# Altium integrated library ALTIUM-WE-PD-rev18b.IntLib: 278 symbols (part 1 of 4)
Pins are listed as number, name and electrical type; pins without a type are passive.

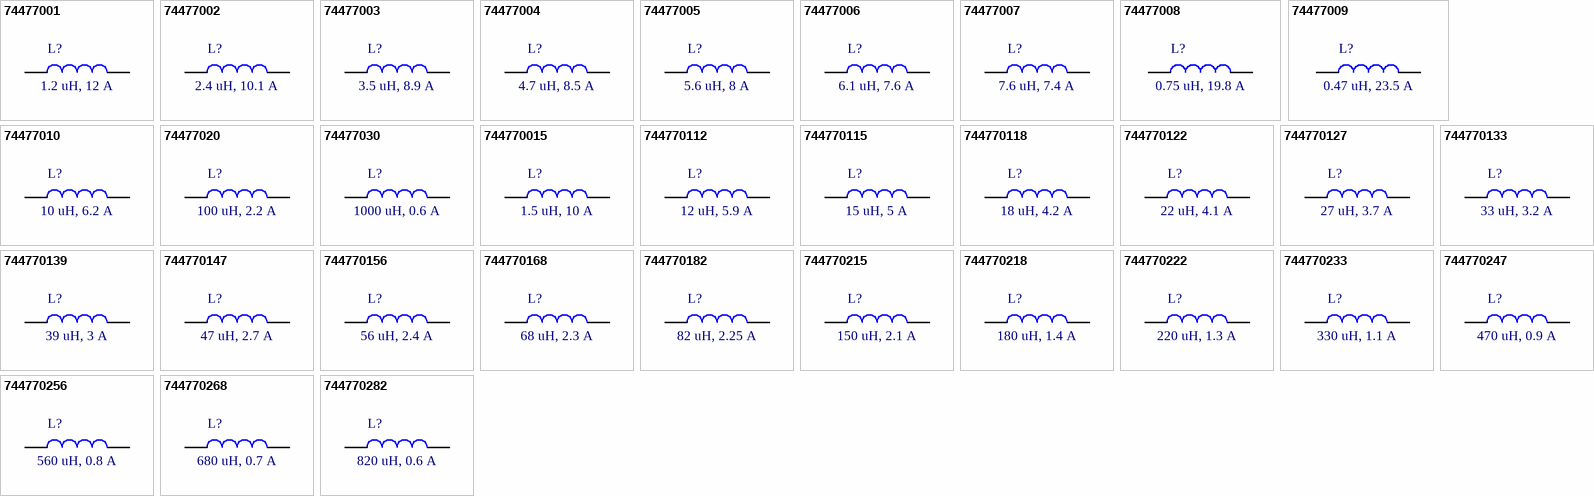
[diagram p0: symbols 74477001 to 744770282]

## 74477001
designator L?, comment 1.2 uH, 12 A
WE-PD SMT Shielded Power Inductor, size 1280, 1.2 uH, 12 A; Part Number: 74477001; Rated Current: 12 A; Inductance: 1.2 uH; DC Resistance max.: 0.007 Ohm; Self Resonant Frequency: 45 MHz; ComponentLink1Description: Manufacturer; ComponentLink1URL: http://www.we-online.de; ComponentLink2Description: Datasheet; ComponentLink2URL: https://katalog.we-online.de/pbs/datasheet/74477001.pdf; Published Date: September 2018; Publisher: Wurth Elektronik; Size: 1280; Operating Temperature: -40 to 125 degC; Mounting Technology: SMT; Packaging: Tape and Reel
footprint WE-PD_1280_Metal base
pins: 1, 2

## 74477002
designator L?, comment 2.4 uH, 10.1 A
WE-PD SMT Shielded Power Inductor, size 1280, 2.4 uH, 10.1 A; Part Number: 74477002; Rated Current: 10.1 A; Inductance: 2.4 uH; DC Resistance max.: 0.012 Ohm; Self Resonant Frequency: 41 MHz; ComponentLink1Description: Manufacturer; ComponentLink1URL: http://www.we-online.de; ComponentLink2Description: Datasheet; ComponentLink2URL: https://katalog.we-online.de/pbs/datasheet/74477002.pdf; Published Date: September 2018; Publisher: Wurth Elektronik; Size: 1280; Operating Temperature: -40 to 125 degC; Mounting Technology: SMT; Packaging: Tape and Reel
footprint WE-PD_1280_Metal base
pins: 1, 2

## 74477003
designator L?, comment 3.5 uH, 8.9 A
WE-PD SMT Shielded Power Inductor, size 1280, 3.5 uH, 8.9 A; Part Number: 74477003; Rated Current: 8.9 A; Inductance: 3.5 uH; DC Resistance max.: 0.014 Ohm; Self Resonant Frequency: 37.5 MHz; ComponentLink1Description: Manufacturer; ComponentLink1URL: http://www.we-online.de; ComponentLink2Description: Datasheet; ComponentLink2URL: https://katalog.we-online.de/pbs/datasheet/74477003.pdf; Published Date: September 2018; Publisher: Wurth Elektronik; Size: 1280; Operating Temperature: -40 to 125 degC; Mounting Technology: SMT; Packaging: Tape and Reel
footprint WE-PD_1280_Metal base
pins: 1, 2

## 74477004
designator L?, comment 4.7 uH, 8.5 A
WE-PD SMT Shielded Power Inductor, size 1280, 4.7 uH, 8.5 A; Part Number: 74477004; Rated Current: 8.5 A; Inductance: 4.7 uH; DC Resistance max.: 0.016 Ohm; Self Resonant Frequency: 31.2 MHz; ComponentLink1Description: Manufacturer; ComponentLink1URL: http://www.we-online.de; ComponentLink2Description: Datasheet; ComponentLink2URL: https://katalog.we-online.de/pbs/datasheet/74477004.pdf; Published Date: September 2018; Publisher: Wurth Elektronik; Size: 1280; Operating Temperature: -40 to 125 degC; Mounting Technology: SMT; Packaging: Tape and Reel
footprint WE-PD_1280_Metal base
pins: 1, 2

## 74477005
designator L?, comment 5.6 uH, 8 A
WE-PD SMT Shielded Power Inductor, size 1280, 5.6 uH, 8 A; Part Number: 74477005; Rated Current: 8 A; Inductance: 5.6 uH; DC Resistance max.: 0.017 Ohm; Self Resonant Frequency: 24 MHz; ComponentLink1Description: Manufacturer; ComponentLink1URL: http://www.we-online.de; ComponentLink2Description: Datasheet; ComponentLink2URL: https://katalog.we-online.de/pbs/datasheet/74477005.pdf; Published Date: September 2018; Publisher: Wurth Elektronik; Size: 1280; Operating Temperature: -40 to 125 degC; Mounting Technology: SMT; Packaging: Tape and Reel
footprint WE-PD_1280_Metal base
pins: 1, 2

## 74477006
designator L?, comment 6.1 uH, 7.6 A
WE-PD SMT Shielded Power Inductor, size 1280, 6.1 uH, 7.6 A; Part Number: 74477006; Rated Current: 7.6 A; Inductance: 6.1 uH; DC Resistance max.: 0.018 Ohm; Self Resonant Frequency: 25 MHz; ComponentLink1Description: Manufacturer; ComponentLink1URL: http://www.we-online.de; ComponentLink2Description: Datasheet; ComponentLink2URL: https://katalog.we-online.de/pbs/datasheet/74477006.pdf; Published Date: September 2018; Publisher: Wurth Elektronik; Size: 1280; Operating Temperature: -40 to 125 degC; Mounting Technology: SMT; Packaging: Tape and Reel
footprint WE-PD_1280_Metal base
pins: 1, 2

## 74477007
designator L?, comment 7.6 uH, 7.4 A
WE-PD SMT Shielded Power Inductor, size 1280, 7.6 uH, 7.4 A; Part Number: 74477007; Rated Current: 7.4 A; Inductance: 7.6 uH; DC Resistance max.: 0.02 Ohm; Self Resonant Frequency: 21.3 MHz; ComponentLink1Description: Manufacturer; ComponentLink1URL: http://www.we-online.de; ComponentLink2Description: Datasheet; ComponentLink2URL: https://katalog.we-online.de/pbs/datasheet/74477007.pdf; Published Date: September 2018; Publisher: Wurth Elektronik; Size: 1280; Operating Temperature: -40 to 125 degC; Mounting Technology: SMT; Packaging: Tape and Reel
footprint WE-PD_1280_Metal base
pins: 1, 2

## 74477008
designator L?, comment 0.75 uH, 19.8 A
WE-PD SMT Shielded Power Inductor, size 1280, 0.75 uH, 19.8 A; Part Number: 74477008; Rated Current: 19.8 A; Inductance: 0.75 uH; DC Resistance max.: 0.004 Ohm; Self Resonant Frequency: 110 MHz; ComponentLink1Description: Manufacturer; ComponentLink1URL: http://www.we-online.de; ComponentLink2Description: Datasheet; ComponentLink2URL: https://katalog.we-online.de/pbs/datasheet/74477008.pdf; Published Date: September 2018; Publisher: Wurth Elektronik; Size: 1280; Operating Temperature: -40 to 125 degC; Mounting Technology: SMT; Packaging: Tape and Reel
footprint WE-PD_1280_Metal base
pins: 1, 2

## 74477009
designator L?, comment 0.47 uH, 23.5 A
WE-PD SMT Shielded Power Inductor, size 1280, 0.47 uH, 23.5 A; Part Number: 74477009; Rated Current: 23.5 A; Inductance: 0.47 uH; DC Resistance max.: 0.003 Ohm; Self Resonant Frequency: 120 MHz; ComponentLink1Description: Manufacturer; ComponentLink1URL: http://www.we-online.de; ComponentLink2Description: Datasheet; ComponentLink2URL: https://katalog.we-online.de/pbs/datasheet/74477009.pdf; Published Date: September 2018; Publisher: Wurth Elektronik; Size: 1280; Operating Temperature: -40 to 125 degC; Mounting Technology: SMT; Packaging: Tape and Reel
footprint WE-PD_1280_Metal base
pins: 1, 2

## 74477010
designator L?, comment 10 uH, 6.2 A
WE-PD SMT Shielded Power Inductor, size 1280, 10 uH, 6.2 A; Part Number: 74477010; Rated Current: 6.2 A; Inductance: 10 uH; DC Resistance max.: 0.022 Ohm; Self Resonant Frequency: 18 MHz; ComponentLink1Description: Manufacturer; ComponentLink1URL: http://www.we-online.de; ComponentLink2Description: Datasheet; ComponentLink2URL: https://katalog.we-online.de/pbs/datasheet/74477010.pdf; Published Date: September 2018; Publisher: Wurth Elektronik; Size: 1280; Operating Temperature: -40 to 125 degC; Mounting Technology: SMT; Packaging: Tape and Reel
footprint WE-PD_1280_Metal base
pins: 1, 2

## 74477020
designator L?, comment 100 uH, 2.2 A
WE-PD SMT Shielded Power Inductor, size 1280, 100 uH, 2.2 A; Part Number: 74477020; Rated Current: 2.2 A; Inductance: 100 uH; DC Resistance max.: 0.22 Ohm; Self Resonant Frequency: 5.2 MHz; ComponentLink1Description: Manufacturer; ComponentLink1URL: http://www.we-online.de; ComponentLink2Description: Datasheet; ComponentLink2URL: https://katalog.we-online.de/pbs/datasheet/74477020.pdf; Published Date: September 2018; Publisher: Wurth Elektronik; Size: 1280; Operating Temperature: -40 to 125 degC; Mounting Technology: SMT; Packaging: Tape and Reel
footprint WE-PD_1280_Metal base
pins: 1, 2

## 74477030
designator L?, comment 1000 uH, 0.6 A
WE-PD SMT Shielded Power Inductor, size 1280, 1000 uH, 0.6 A; Part Number: 74477030; Rated Current: 0.6 A; Inductance: 1000 uH; DC Resistance max.: 1.82 Ohm; Self Resonant Frequency: 1.8 MHz; ComponentLink1Description: Manufacturer; ComponentLink1URL: http://www.we-online.de; ComponentLink2Description: Datasheet; ComponentLink2URL: https://katalog.we-online.de/pbs/datasheet/74477030.pdf; Published Date: September 2018; Publisher: Wurth Elektronik; Size: 1280; Operating Temperature: -40 to 125 degC; Mounting Technology: SMT; Packaging: Tape and Reel
footprint WE-PD_1280_Metal base
pins: 1, 2

## 744770015
designator L?, comment 1.5 uH, 10 A
WE-PD SMT Shielded Power Inductor, size 1280, 1.5 uH, 10 A; Part Number: 744770015; Rated Current: 10 A; Inductance: 1.5 uH; DC Resistance max.: 0.006 Ohm; Self Resonant Frequency: 42 MHz; ComponentLink1Description: Manufacturer; ComponentLink1URL: http://www.we-online.de; ComponentLink2Description: Datasheet; ComponentLink2URL: https://katalog.we-online.de/pbs/datasheet/744770015.pdf; Published Date: September 2018; Publisher: Wurth Elektronik; Size: 1280; Operating Temperature: -40 to 125 degC; Mounting Technology: SMT; Packaging: Tape and Reel
footprint WE-PD_1280_Metal base
pins: 1, 2

## 744770112
designator L?, comment 12 uH, 5.9 A
WE-PD SMT Shielded Power Inductor, size 1280, 12 uH, 5.9 A; Part Number: 744770112; Rated Current: 5.9 A; Inductance: 12 uH; DC Resistance max.: 0.024 Ohm; Self Resonant Frequency: 16 MHz; ComponentLink1Description: Manufacturer; ComponentLink1URL: http://www.we-online.de; ComponentLink2Description: Datasheet; ComponentLink2URL: https://katalog.we-online.de/pbs/datasheet/744770112.pdf; Published Date: September 2018; Publisher: Wurth Elektronik; Size: 1280; Operating Temperature: -40 to 125 degC; Mounting Technology: SMT; Packaging: Tape and Reel
footprint WE-PD_1280_Metal base
pins: 1, 2

## 744770115
designator L?, comment 15 uH, 5 A
WE-PD SMT Shielded Power Inductor, size 1280, 15 uH, 5 A; Part Number: 744770115; Rated Current: 5 A; Inductance: 15 uH; DC Resistance max.: 0.027 Ohm; Self Resonant Frequency: 14.5 MHz; ComponentLink1Description: Manufacturer; ComponentLink1URL: http://www.we-online.de; ComponentLink2Description: Datasheet; ComponentLink2URL: https://katalog.we-online.de/pbs/datasheet/744770115.pdf; Published Date: September 2018; Publisher: Wurth Elektronik; Size: 1280; Operating Temperature: -40 to 125 degC; Mounting Technology: SMT; Packaging: Tape and Reel
footprint WE-PD_1280_Metal base
pins: 1, 2

## 744770118
designator L?, comment 18 uH, 4.2 A
WE-PD SMT Shielded Power Inductor, size 1280, 18 uH, 4.2 A; Part Number: 744770118; Rated Current: 4.2 A; Inductance: 18 uH; DC Resistance max.: 0.039 Ohm; Self Resonant Frequency: 13.2 MHz; ComponentLink1Description: Manufacturer; ComponentLink1URL: http://www.we-online.de; ComponentLink2Description: Datasheet; ComponentLink2URL: https://katalog.we-online.de/pbs/datasheet/744770118.pdf; Published Date: September 2018; Publisher: Wurth Elektronik; Size: 1280; Operating Temperature: -40 to 125 degC; Mounting Technology: SMT; Packaging: Tape and Reel
footprint WE-PD_1280_Metal base
pins: 1, 2

## 744770122
designator L?, comment 22 uH, 4.1 A
WE-PD SMT Shielded Power Inductor, size 1280, 22 uH, 4.1 A; Part Number: 744770122; Rated Current: 4.1 A; Inductance: 22 uH; DC Resistance max.: 0.043 Ohm; Self Resonant Frequency: 12 MHz; ComponentLink1Description: Manufacturer; ComponentLink1URL: http://www.we-online.de; ComponentLink2Description: Datasheet; ComponentLink2URL: https://katalog.we-online.de/pbs/datasheet/744770122.pdf; Published Date: September 2018; Publisher: Wurth Elektronik; Size: 1280; Operating Temperature: -40 to 125 degC; Mounting Technology: SMT; Packaging: Tape and Reel
footprint WE-PD_1280_Metal base
pins: 1, 2

## 744770127
designator L?, comment 27 uH, 3.7 A
WE-PD SMT Shielded Power Inductor, size 1280, 27 uH, 3.7 A; Part Number: 744770127; Rated Current: 3.7 A; Inductance: 27 uH; DC Resistance max.: 0.046 Ohm; Self Resonant Frequency: 10 MHz; ComponentLink1Description: Manufacturer; ComponentLink1URL: http://www.we-online.de; ComponentLink2Description: Datasheet; ComponentLink2URL: https://katalog.we-online.de/pbs/datasheet/744770127.pdf; Published Date: September 2018; Publisher: Wurth Elektronik; Size: 1280; Operating Temperature: -40 to 125 degC; Mounting Technology: SMT; Packaging: Tape and Reel
footprint WE-PD_1280_Metal base
pins: 1, 2

## 744770133
designator L?, comment 33 uH, 3.2 A
WE-PD SMT Shielded Power Inductor, size 1280, 33 uH, 3.2 A; Part Number: 744770133; Rated Current: 3.2 A; Inductance: 33 uH; DC Resistance max.: 0.064 Ohm; Self Resonant Frequency: 8.5 MHz; ComponentLink1Description: Manufacturer; ComponentLink1URL: http://www.we-online.de; ComponentLink2Description: Datasheet; ComponentLink2URL: https://katalog.we-online.de/pbs/datasheet/744770133.pdf; Published Date: September 2018; Publisher: Wurth Elektronik; Size: 1280; Operating Temperature: -40 to 125 degC; Mounting Technology: SMT; Packaging: Tape and Reel
footprint WE-PD_1280_Metal base
pins: 1, 2

## 744770139
designator L?, comment 39 uH, 3 A
WE-PD SMT Shielded Power Inductor, size 1280, 39 uH, 3 A; Part Number: 744770139; Rated Current: 3 A; Inductance: 39 uH; DC Resistance max.: 0.073 Ohm; Self Resonant Frequency: 8.2 MHz; ComponentLink1Description: Manufacturer; ComponentLink1URL: http://www.we-online.de; ComponentLink2Description: Datasheet; ComponentLink2URL: https://katalog.we-online.de/pbs/datasheet/744770139.pdf; Published Date: September 2018; Publisher: Wurth Elektronik; Size: 1280; Operating Temperature: -40 to 125 degC; Mounting Technology: SMT; Packaging: Tape and Reel
footprint WE-PD_1280_Metal base
pins: 1, 2

## 744770147
designator L?, comment 47 uH, 2.7 A
WE-PD SMT Shielded Power Inductor, size 1280, 47 uH, 2.7 A; Part Number: 744770147; Rated Current: 2.7 A; Inductance: 47 uH; DC Resistance max.: 0.1 Ohm; Self Resonant Frequency: 7.9 MHz; ComponentLink1Description: Manufacturer; ComponentLink1URL: http://www.we-online.de; ComponentLink2Description: Datasheet; ComponentLink2URL: https://katalog.we-online.de/pbs/datasheet/744770147.pdf; Published Date: September 2018; Publisher: Wurth Elektronik; Size: 1280; Operating Temperature: -40 to 125 degC; Mounting Technology: SMT; Packaging: Tape and Reel
footprint WE-PD_1280_Metal base
pins: 1, 2

## 744770156
designator L?, comment 56 uH, 2.4 A
WE-PD SMT Shielded Power Inductor, size 1280, 56 uH, 2.4 A; Part Number: 744770156; Rated Current: 2.4 A; Inductance: 56 uH; DC Resistance max.: 0.11 Ohm; Self Resonant Frequency: 7.1 MHz; ComponentLink1Description: Manufacturer; ComponentLink1URL: http://www.we-online.de; ComponentLink2Description: Datasheet; ComponentLink2URL: https://katalog.we-online.de/pbs/datasheet/744770156.pdf; Published Date: September 2018; Publisher: Wurth Elektronik; Size: 1280; Operating Temperature: -40 to 125 degC; Mounting Technology: SMT; Packaging: Tape and Reel
footprint WE-PD_1280_Metal base
pins: 1, 2

## 744770168
designator L?, comment 68 uH, 2.3 A
WE-PD SMT Shielded Power Inductor, size 1280, 68 uH, 2.3 A; Part Number: 744770168; Rated Current: 2.3 A; Inductance: 68 uH; DC Resistance max.: 0.14 Ohm; Self Resonant Frequency: 6.4 MHz; ComponentLink1Description: Manufacturer; ComponentLink1URL: http://www.we-online.de; ComponentLink2Description: Datasheet; ComponentLink2URL: https://katalog.we-online.de/pbs/datasheet/744770168.pdf; Published Date: September 2018; Publisher: Wurth Elektronik; Size: 1280; Operating Temperature: -40 to 125 degC; Mounting Technology: SMT; Packaging: Tape and Reel
footprint WE-PD_1280_Metal base
pins: 1, 2

## 744770182
designator L?, comment 82 uH, 2.25 A
WE-PD SMT Shielded Power Inductor, size 1280, 82 uH, 2.25 A; Part Number: 744770182; Rated Current: 2.25 A; Inductance: 82 uH; DC Resistance max.: 0.16 Ohm; Self Resonant Frequency: 3.5 MHz; ComponentLink1Description: Manufacturer; ComponentLink1URL: http://www.we-online.de; ComponentLink2Description: Datasheet; ComponentLink2URL: https://katalog.we-online.de/pbs/datasheet/744770182.pdf; Published Date: September 2018; Publisher: Wurth Elektronik; Size: 1280; Operating Temperature: -40 to 125 degC; Mounting Technology: SMT; Packaging: Tape and Reel
footprint WE-PD_1280_Metal base
pins: 1, 2

## 744770215
designator L?, comment 150 uH, 2.1 A
WE-PD SMT Shielded Power Inductor, size 1280, 150 uH, 2.1 A; Part Number: 744770215; Rated Current: 2.1 A; Inductance: 150 uH; DC Resistance max.: 0.28 Ohm; Self Resonant Frequency: 3 MHz; ComponentLink1Description: Manufacturer; ComponentLink1URL: http://www.we-online.de; ComponentLink2Description: Datasheet; ComponentLink2URL: https://katalog.we-online.de/pbs/datasheet/744770215.pdf; Published Date: September 2018; Publisher: Wurth Elektronik; Size: 1280; Operating Temperature: -40 to 125 degC; Mounting Technology: SMT; Packaging: Tape and Reel
footprint WE-PD_1280_Metal base
pins: 1, 2

## 744770218
designator L?, comment 180 uH, 1.4 A
WE-PD SMT Shielded Power Inductor, size 1280, 180 uH, 1.4 A; Part Number: 744770218; Rated Current: 1.4 A; Inductance: 180 uH; DC Resistance max.: 0.35 Ohm; Self Resonant Frequency: 4.2 MHz; ComponentLink1Description: Manufacturer; ComponentLink1URL: http://www.we-online.de; ComponentLink2Description: Datasheet; ComponentLink2URL: https://katalog.we-online.de/pbs/datasheet/744770218.pdf; Published Date: September 2018; Publisher: Wurth Elektronik; Size: 1280; Operating Temperature: -40 to 125 degC; Mounting Technology: SMT; Packaging: Tape and Reel
footprint WE-PD_1280_Metal base
pins: 1, 2

## 744770222
designator L?, comment 220 uH, 1.3 A
WE-PD SMT Shielded Power Inductor, size 1280, 220 uH, 1.3 A; Part Number: 744770222; Rated Current: 1.3 A; Inductance: 220 uH; DC Resistance max.: 0.39 Ohm; Self Resonant Frequency: 3.8 MHz; ComponentLink1Description: Manufacturer; ComponentLink1URL: http://www.we-online.de; ComponentLink2Description: Datasheet; ComponentLink2URL: https://katalog.we-online.de/pbs/datasheet/744770222.pdf; Published Date: September 2018; Publisher: Wurth Elektronik; Size: 1280; Operating Temperature: -40 to 125 degC; Mounting Technology: SMT; Packaging: Tape and Reel
footprint WE-PD_1280_Metal base
pins: 1, 2

## 744770233
designator L?, comment 330 uH, 1.1 A
WE-PD SMT Shielded Power Inductor, size 1280, 330 uH, 1.1 A; Part Number: 744770233; Rated Current: 1.1 A; Inductance: 330 uH; DC Resistance max.: 0.64 Ohm; Self Resonant Frequency: 3 MHz; ComponentLink1Description: Manufacturer; ComponentLink1URL: http://www.we-online.de; ComponentLink2Description: Datasheet; ComponentLink2URL: https://katalog.we-online.de/pbs/datasheet/744770233.pdf; Published Date: September 2018; Publisher: Wurth Elektronik; Size: 1280; Operating Temperature: -40 to 125 degC; Mounting Technology: SMT; Packaging: Tape and Reel
footprint WE-PD_1280_Metal base
pins: 1, 2

## 744770247
designator L?, comment 470 uH, 0.9 A
WE-PD SMT Shielded Power Inductor, size 1280, 470 uH, 0.9 A; Part Number: 744770247; Rated Current: 0.9 A; Inductance: 470 uH; DC Resistance max.: 0.98 Ohm; Self Resonant Frequency: 2.6 MHz; ComponentLink1Description: Manufacturer; ComponentLink1URL: http://www.we-online.de; ComponentLink2Description: Datasheet; ComponentLink2URL: https://katalog.we-online.de/pbs/datasheet/744770247.pdf; Published Date: September 2018; Publisher: Wurth Elektronik; Size: 1280; Operating Temperature: -40 to 125 degC; Mounting Technology: SMT; Packaging: Tape and Reel
footprint WE-PD_1280_Metal base
pins: 1, 2

## 744770256
designator L?, comment 560 uH, 0.8 A
WE-PD SMT Shielded Power Inductor, size 1280, 560 uH, 0.8 A; Part Number: 744770256; Rated Current: 0.8 A; Inductance: 560 uH; DC Resistance max.: 1.07 Ohm; Self Resonant Frequency: 2.5 MHz; ComponentLink1Description: Manufacturer; ComponentLink1URL: http://www.we-online.de; ComponentLink2Description: Datasheet; ComponentLink2URL: https://katalog.we-online.de/pbs/datasheet/744770256.pdf; Published Date: September 2018; Publisher: Wurth Elektronik; Size: 1280; Operating Temperature: -40 to 125 degC; Mounting Technology: SMT; Packaging: Tape and Reel
footprint WE-PD_1280_Metal base
pins: 1, 2

## 744770268
designator L?, comment 680 uH, 0.7 A
WE-PD SMT Shielded Power Inductor, size 1280, 680 uH, 0.7 A; Part Number: 744770268; Rated Current: 0.7 A; Inductance: 680 uH; DC Resistance max.: 1.46 Ohm; Self Resonant Frequency: 2.2 MHz; ComponentLink1Description: Manufacturer; ComponentLink1URL: http://www.we-online.de; ComponentLink2Description: Datasheet; ComponentLink2URL: https://katalog.we-online.de/pbs/datasheet/744770268.pdf; Published Date: September 2018; Publisher: Wurth Elektronik; Size: 1280; Operating Temperature: -40 to 125 degC; Mounting Technology: SMT; Packaging: Tape and Reel
footprint WE-PD_1280_Metal base
pins: 1, 2

## 744770282
designator L?, comment 820 uH, 0.6 A
WE-PD SMT Shielded Power Inductor, size 1280, 820 uH, 0.6 A; Part Number: 744770282; Rated Current: 0.6 A; Inductance: 820 uH; DC Resistance max.: 1.64 Ohm; Self Resonant Frequency: 2 MHz; ComponentLink1Description: Manufacturer; ComponentLink1URL: http://www.we-online.de; ComponentLink2Description: Datasheet; ComponentLink2URL: https://katalog.we-online.de/pbs/datasheet/744770282.pdf; Published Date: September 2018; Publisher: Wurth Elektronik; Size: 1280; Operating Temperature: -40 to 125 degC; Mounting Technology: SMT; Packaging: Tape and Reel
footprint WE-PD_1280_Metal base
pins: 1, 2


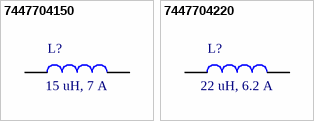
[diagram p1: symbols 7447704150 to 7447704220]

## 7447704150
designator L?, comment 15 uH, 7 A
WE-PD SMT Shielded Power Inductor, size 1510, 15 uH, 7 A; Part Number: 7447704150; Rated Current: 7 A; Inductance: 15 uH; DC Resistance max.: 0.026 Ohm; Self Resonant Frequency: 20.5 MHz; ComponentLink1Description: Manufacturer; ComponentLink1URL: http://www.we-online.de; ComponentLink2Description: Datasheet; ComponentLink2URL: https://katalog.we-online.de/pbs/datasheet/7447704150.pdf; Published Date: September 2018; Publisher: Wurth Elektronik; Size: 1510; Operating Temperature: -40 to 125 degC; Mounting Technology: SMT; Packaging: Tape and Reel
footprint WE-PD_1510_Metal base
pins: 1, 2

## 7447704220
designator L?, comment 22 uH, 6.2 A
WE-PD SMT Shielded Power Inductor, size 1510, 22 uH, 6.2 A; Part Number: 7447704220; Rated Current: 6.2 A; Inductance: 22 uH; DC Resistance max.: 0.033 Ohm; Self Resonant Frequency: 11.5 MHz; ComponentLink1Description: Manufacturer; ComponentLink1URL: http://www.we-online.de; ComponentLink2Description: Datasheet; ComponentLink2URL: https://katalog.we-online.de/pbs/datasheet/7447704220.pdf; Published Date: September 2018; Publisher: Wurth Elektronik; Size: 1510; Operating Temperature: -40 to 125 degC; Mounting Technology: SMT; Packaging: Tape and Reel
footprint WE-PD_1510_Metal base
pins: 1, 2


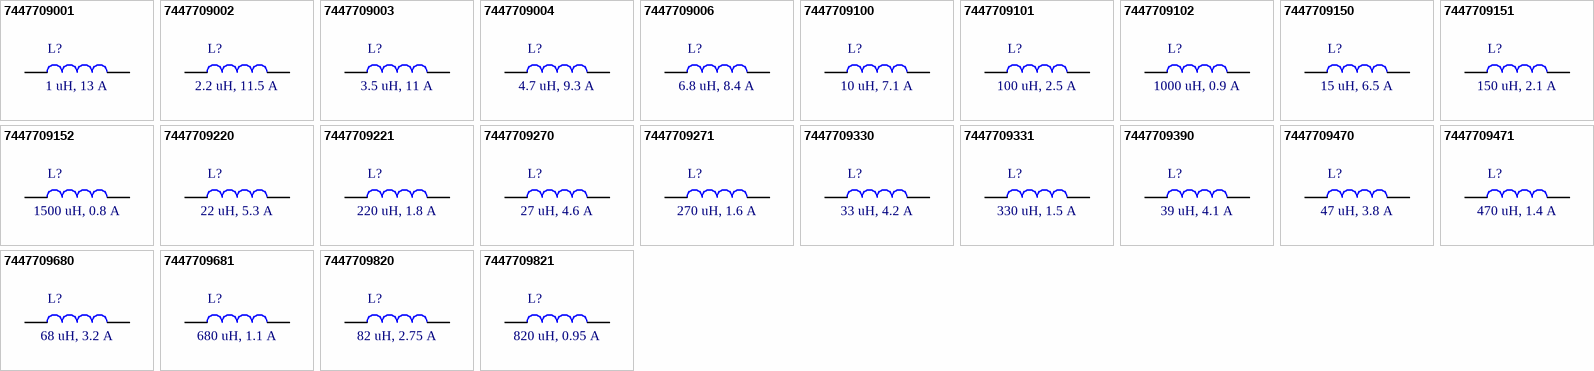
[diagram p2: symbols 7447709001 to 7447709821]

## 7447709001
designator L?, comment 1 uH, 13 A
WE-PD SMT Shielded Power Inductor, size 1210, 1 uH, 13 A; Part Number: 7447709001; Rated Current: 13 A; Inductance: 1 uH; DC Resistance max.: 0.006 Ohm; Self Resonant Frequency: 120 MHz; ComponentLink1Description: Manufacturer; ComponentLink1URL: http://www.we-online.de; ComponentLink2Description: Datasheet; ComponentLink2URL: https://katalog.we-online.de/pbs/datasheet/7447709001.pdf; Published Date: September 2018; Publisher: Wurth Elektronik; Size: 1210; Operating Temperature: -40 to 125 degC; Mounting Technology: SMT; Packaging: Tape and Reel
footprint WE-PD_1210_Metal base
pins: 1, 2

## 7447709002
designator L?, comment 2.2 uH, 11.5 A
WE-PD SMT Shielded Power Inductor, size 1210, 2.2 uH, 11.5 A; Part Number: 7447709002; Rated Current: 11.5 A; Inductance: 2.2 uH; DC Resistance max.: 0.006 Ohm; Self Resonant Frequency: 65 MHz; ComponentLink1Description: Manufacturer; ComponentLink1URL: http://www.we-online.de; ComponentLink2Description: Datasheet; ComponentLink2URL: https://katalog.we-online.de/pbs/datasheet/7447709002.pdf; Published Date: September 2018; Publisher: Wurth Elektronik; Size: 1210; Operating Temperature: -40 to 125 degC; Mounting Technology: SMT; Packaging: Tape and Reel
footprint WE-PD_1210_Metal base
pins: 1, 2

## 7447709003
designator L?, comment 3.5 uH, 11 A
WE-PD SMT Shielded Power Inductor, size 1210, 3.5 uH, 11 A; Part Number: 7447709003; Rated Current: 11 A; Inductance: 3.5 uH; DC Resistance max.: 0.009 Ohm; Self Resonant Frequency: 45 MHz; ComponentLink1Description: Manufacturer; ComponentLink1URL: http://www.we-online.de; ComponentLink2Description: Datasheet; ComponentLink2URL: https://katalog.we-online.de/pbs/datasheet/7447709003.pdf; Published Date: September 2018; Publisher: Wurth Elektronik; Size: 1210; Operating Temperature: -40 to 125 degC; Mounting Technology: SMT; Packaging: Tape and Reel
footprint WE-PD_1210_Metal base
pins: 1, 2

## 7447709004
designator L?, comment 4.7 uH, 9.3 A
WE-PD SMT Shielded Power Inductor, size 1210, 4.7 uH, 9.3 A; Part Number: 7447709004; Rated Current: 9.3 A; Inductance: 4.7 uH; DC Resistance max.: 0.011 Ohm; Self Resonant Frequency: 38 MHz; ComponentLink1Description: Manufacturer; ComponentLink1URL: http://www.we-online.de; ComponentLink2Description: Datasheet; ComponentLink2URL: https://katalog.we-online.de/pbs/datasheet/7447709004.pdf; Published Date: September 2018; Publisher: Wurth Elektronik; Size: 1210; Operating Temperature: -40 to 125 degC; Mounting Technology: SMT; Packaging: Tape and Reel
footprint WE-PD_1210_Metal base
pins: 1, 2

## 7447709006
designator L?, comment 6.8 uH, 8.4 A
WE-PD SMT Shielded Power Inductor, size 1210, 6.8 uH, 8.4 A; Part Number: 7447709006; Rated Current: 8.4 A; Inductance: 6.8 uH; DC Resistance max.: 0.014 Ohm; Self Resonant Frequency: 23 MHz; ComponentLink1Description: Manufacturer; ComponentLink1URL: http://www.we-online.de; ComponentLink2Description: Datasheet; ComponentLink2URL: https://katalog.we-online.de/pbs/datasheet/7447709006.pdf; Published Date: September 2018; Publisher: Wurth Elektronik; Size: 1210; Operating Temperature: -40 to 125 degC; Mounting Technology: SMT; Packaging: Tape and Reel
footprint WE-PD_1210_Metal base
pins: 1, 2

## 7447709100
designator L?, comment 10 uH, 7.1 A
WE-PD SMT Shielded Power Inductor, size 1210, 10 uH, 7.1 A; Part Number: 7447709100; Rated Current: 7.1 A; Inductance: 10 uH; DC Resistance max.: 0.021 Ohm; Self Resonant Frequency: 21 MHz; ComponentLink1Description: Manufacturer; ComponentLink1URL: http://www.we-online.de; ComponentLink2Description: Datasheet; ComponentLink2URL: https://katalog.we-online.de/pbs/datasheet/7447709100.pdf; Published Date: September 2018; Publisher: Wurth Elektronik; Size: 1210; Operating Temperature: -40 to 125 degC; Mounting Technology: SMT; Packaging: Tape and Reel
footprint WE-PD_1210_Metal base
pins: 1, 2

## 7447709101
designator L?, comment 100 uH, 2.5 A
WE-PD SMT Shielded Power Inductor, size 1210, 100 uH, 2.5 A; Part Number: 7447709101; Rated Current: 2.5 A; Inductance: 100 uH; DC Resistance max.: 0.11 Ohm; Self Resonant Frequency: 4.3 MHz; ComponentLink1Description: Manufacturer; ComponentLink1URL: http://www.we-online.de; ComponentLink2Description: Datasheet; ComponentLink2URL: https://katalog.we-online.de/pbs/datasheet/7447709101.pdf; Published Date: September 2018; Publisher: Wurth Elektronik; Size: 1210; Operating Temperature: -40 to 125 degC; Mounting Technology: SMT; Packaging: Tape and Reel
footprint WE-PD_1210_Metal base
pins: 1, 2

## 7447709102
designator L?, comment 1000 uH, 0.9 A
WE-PD SMT Shielded Power Inductor, size 1210, 1000 uH, 0.9 A; Part Number: 7447709102; Rated Current: 0.9 A; Inductance: 1000 uH; DC Resistance max.: 1.2 Ohm; Self Resonant Frequency: 1 MHz; ComponentLink1Description: Manufacturer; ComponentLink1URL: http://www.we-online.de; ComponentLink2Description: Datasheet; ComponentLink2URL: https://katalog.we-online.de/pbs/datasheet/7447709102.pdf; Published Date: September 2018; Publisher: Wurth Elektronik; Size: 1210; Operating Temperature: -40 to 125 degC; Mounting Technology: SMT; Packaging: Tape and Reel
footprint WE-PD_1210_Metal base
pins: 1, 2

## 7447709150
designator L?, comment 15 uH, 6.5 A
WE-PD SMT Shielded Power Inductor, size 1210, 15 uH, 6.5 A; Part Number: 7447709150; Rated Current: 6.5 A; Inductance: 15 uH; DC Resistance max.: 0.028 Ohm; Self Resonant Frequency: 17 MHz; ComponentLink1Description: Manufacturer; ComponentLink1URL: http://www.we-online.de; ComponentLink2Description: Datasheet; ComponentLink2URL: https://katalog.we-online.de/pbs/datasheet/7447709150.pdf; Published Date: September 2018; Publisher: Wurth Elektronik; Size: 1210; Operating Temperature: -40 to 125 degC; Mounting Technology: SMT; Packaging: Tape and Reel
footprint WE-PD_1210_Metal base
pins: 1, 2

## 7447709151
designator L?, comment 150 uH, 2.1 A
WE-PD SMT Shielded Power Inductor, size 1210, 150 uH, 2.1 A; Part Number: 7447709151; Rated Current: 2.1 A; Inductance: 150 uH; DC Resistance max.: 0.2 Ohm; Self Resonant Frequency: 3.5 MHz; ComponentLink1Description: Manufacturer; ComponentLink1URL: http://www.we-online.de; ComponentLink2Description: Datasheet; ComponentLink2URL: https://katalog.we-online.de/pbs/datasheet/7447709151.pdf; Published Date: September 2018; Publisher: Wurth Elektronik; Size: 1210; Operating Temperature: -40 to 125 degC; Mounting Technology: SMT; Packaging: Tape and Reel
footprint WE-PD_1210_Metal base
pins: 1, 2

## 7447709152
designator L?, comment 1500 uH, 0.8 A
WE-PD SMT Shielded Power Inductor, size 1210, 1500 uH, 0.8 A; Part Number: 7447709152; Rated Current: 0.8 A; Inductance: 1500 uH; DC Resistance max.: 2.3 Ohm; Self Resonant Frequency: 0.9 MHz; ComponentLink1Description: Manufacturer; ComponentLink1URL: http://www.we-online.de; ComponentLink2Description: Datasheet; ComponentLink2URL: https://katalog.we-online.de/pbs/datasheet/7447709152.pdf; Published Date: September 2018; Publisher: Wurth Elektronik; Size: 1210; Operating Temperature: -40 to 125 degC; Mounting Technology: SMT; Packaging: Tape and Reel
footprint WE-PD_1210_Metal base
pins: 1, 2

## 7447709220
designator L?, comment 22 uH, 5.3 A
WE-PD SMT Shielded Power Inductor, size 1210, 22 uH, 5.3 A; Part Number: 7447709220; Rated Current: 5.3 A; Inductance: 22 uH; DC Resistance max.: 0.028 Ohm; Self Resonant Frequency: 10 MHz; ComponentLink1Description: Manufacturer; ComponentLink1URL: http://www.we-online.de; ComponentLink2Description: Datasheet; ComponentLink2URL: https://katalog.we-online.de/pbs/datasheet/7447709220.pdf; Published Date: September 2018; Publisher: Wurth Elektronik; Size: 1210; Operating Temperature: -40 to 125 degC; Mounting Technology: SMT; Packaging: Tape and Reel
footprint WE-PD_1210_Metal base
pins: 1, 2

## 7447709221
designator L?, comment 220 uH, 1.8 A
WE-PD SMT Shielded Power Inductor, size 1210, 220 uH, 1.8 A; Part Number: 7447709221; Rated Current: 1.8 A; Inductance: 220 uH; DC Resistance max.: 0.3 Ohm; Self Resonant Frequency: 2.7 MHz; ComponentLink1Description: Manufacturer; ComponentLink1URL: http://www.we-online.de; ComponentLink2Description: Datasheet; ComponentLink2URL: https://katalog.we-online.de/pbs/datasheet/7447709221.pdf; Published Date: September 2018; Publisher: Wurth Elektronik; Size: 1210; Operating Temperature: -40 to 125 degC; Mounting Technology: SMT; Packaging: Tape and Reel
footprint WE-PD_1210_Metal base
pins: 1, 2

## 7447709270
designator L?, comment 27 uH, 4.6 A
WE-PD SMT Shielded Power Inductor, size 1210, 27 uH, 4.6 A; Part Number: 7447709270; Rated Current: 4.6 A; Inductance: 27 uH; DC Resistance max.: 0.04 Ohm; Self Resonant Frequency: 8 MHz; ComponentLink1Description: Manufacturer; ComponentLink1URL: http://www.we-online.de; ComponentLink2Description: Datasheet; ComponentLink2URL: https://katalog.we-online.de/pbs/datasheet/7447709270.pdf; Published Date: September 2018; Publisher: Wurth Elektronik; Size: 1210; Operating Temperature: -40 to 125 degC; Mounting Technology: SMT; Packaging: Tape and Reel
footprint WE-PD_1210_Metal base
pins: 1, 2

## 7447709271
designator L?, comment 270 uH, 1.6 A
WE-PD SMT Shielded Power Inductor, size 1210, 270 uH, 1.6 A; Part Number: 7447709271; Rated Current: 1.6 A; Inductance: 270 uH; DC Resistance max.: 0.33 Ohm; Self Resonant Frequency: 2.5 MHz; ComponentLink1Description: Manufacturer; ComponentLink1URL: http://www.we-online.de; ComponentLink2Description: Datasheet; ComponentLink2URL: https://katalog.we-online.de/pbs/datasheet/7447709271.pdf; Published Date: September 2018; Publisher: Wurth Elektronik; Size: 1210; Operating Temperature: -40 to 125 degC; Mounting Technology: SMT; Packaging: Tape and Reel
footprint WE-PD_1210_Metal base
pins: 1, 2

## 7447709330
designator L?, comment 33 uH, 4.2 A
WE-PD SMT Shielded Power Inductor, size 1210, 33 uH, 4.2 A; Part Number: 7447709330; Rated Current: 4.2 A; Inductance: 33 uH; DC Resistance max.: 0.045 Ohm; Self Resonant Frequency: 8.5 MHz; ComponentLink1Description: Manufacturer; ComponentLink1URL: http://www.we-online.de; ComponentLink2Description: Datasheet; ComponentLink2URL: https://katalog.we-online.de/pbs/datasheet/7447709330.pdf; Published Date: September 2018; Publisher: Wurth Elektronik; Size: 1210; Operating Temperature: -40 to 125 degC; Mounting Technology: SMT; Packaging: Tape and Reel
footprint WE-PD_1210_Metal base
pins: 1, 2

## 7447709331
designator L?, comment 330 uH, 1.5 A
WE-PD SMT Shielded Power Inductor, size 1210, 330 uH, 1.5 A; Part Number: 7447709331; Rated Current: 1.5 A; Inductance: 330 uH; DC Resistance max.: 0.43 Ohm; Self Resonant Frequency: 2 MHz; ComponentLink1Description: Manufacturer; ComponentLink1URL: http://www.we-online.de; ComponentLink2Description: Datasheet; ComponentLink2URL: https://katalog.we-online.de/pbs/datasheet/7447709331.pdf; Published Date: September 2018; Publisher: Wurth Elektronik; Size: 1210; Operating Temperature: -40 to 125 degC; Mounting Technology: SMT; Packaging: Tape and Reel
footprint WE-PD_1210_Metal base
pins: 1, 2

## 7447709390
designator L?, comment 39 uH, 4.1 A
WE-PD SMT Shielded Power Inductor, size 1210, 39 uH, 4.1 A; Part Number: 7447709390; Rated Current: 4.1 A; Inductance: 39 uH; DC Resistance max.: 0.056 Ohm; Self Resonant Frequency: 6 MHz; ComponentLink1Description: Manufacturer; ComponentLink1URL: http://www.we-online.de; ComponentLink2Description: Datasheet; ComponentLink2URL: https://katalog.we-online.de/pbs/datasheet/7447709390.pdf; Published Date: September 2018; Publisher: Wurth Elektronik; Size: 1210; Operating Temperature: -40 to 125 degC; Mounting Technology: SMT; Packaging: Tape and Reel
footprint WE-PD_1210_Metal base
pins: 1, 2

## 7447709470
designator L?, comment 47 uH, 3.8 A
WE-PD SMT Shielded Power Inductor, size 1210, 47 uH, 3.8 A; Part Number: 7447709470; Rated Current: 3.8 A; Inductance: 47 uH; DC Resistance max.: 0.06 Ohm; Self Resonant Frequency: 6.5 MHz; ComponentLink1Description: Manufacturer; ComponentLink1URL: http://www.we-online.de; ComponentLink2Description: Datasheet; ComponentLink2URL: https://katalog.we-online.de/pbs/datasheet/7447709470.pdf; Published Date: September 2018; Publisher: Wurth Elektronik; Size: 1210; Operating Temperature: -40 to 125 degC; Mounting Technology: SMT; Packaging: Tape and Reel
footprint WE-PD_1210_Metal base
pins: 1, 2

## 7447709471
designator L?, comment 470 uH, 1.4 A
WE-PD SMT Shielded Power Inductor, size 1210, 470 uH, 1.4 A; Part Number: 7447709471; Rated Current: 1.4 A; Inductance: 470 uH; DC Resistance max.: 0.56 Ohm; Self Resonant Frequency: 1.8 MHz; ComponentLink1Description: Manufacturer; ComponentLink1URL: http://www.we-online.de; ComponentLink2Description: Datasheet; ComponentLink2URL: https://katalog.we-online.de/pbs/datasheet/7447709471.pdf; Published Date: September 2018; Publisher: Wurth Elektronik; Size: 1210; Operating Temperature: -40 to 125 degC; Mounting Technology: SMT; Packaging: Tape and Reel
footprint WE-PD_1210_Metal base
pins: 1, 2

## 7447709680
designator L?, comment 68 uH, 3.2 A
WE-PD SMT Shielded Power Inductor, size 1210, 68 uH, 3.2 A; Part Number: 7447709680; Rated Current: 3.2 A; Inductance: 68 uH; DC Resistance max.: 0.089 Ohm; Self Resonant Frequency: 5.5 MHz; ComponentLink1Description: Manufacturer; ComponentLink1URL: http://www.we-online.de; ComponentLink2Description: Datasheet; ComponentLink2URL: https://katalog.we-online.de/pbs/datasheet/7447709680.pdf; Published Date: September 2018; Publisher: Wurth Elektronik; Size: 1210; Operating Temperature: -40 to 125 degC; Mounting Technology: SMT; Packaging: Tape and Reel
footprint WE-PD_1210_Metal base
pins: 1, 2

## 7447709681
designator L?, comment 680 uH, 1.1 A
WE-PD SMT Shielded Power Inductor, size 1210, 680 uH, 1.1 A; Part Number: 7447709681; Rated Current: 1.1 A; Inductance: 680 uH; DC Resistance max.: 0.825 Ohm; Self Resonant Frequency: 1.5 MHz; ComponentLink1Description: Manufacturer; ComponentLink1URL: http://www.we-online.de; ComponentLink2Description: Datasheet; ComponentLink2URL: https://katalog.we-online.de/pbs/datasheet/7447709681.pdf; Published Date: September 2018; Publisher: Wurth Elektronik; Size: 1210; Operating Temperature: -40 to 125 degC; Mounting Technology: SMT; Packaging: Tape and Reel
footprint WE-PD_1210_Metal base
pins: 1, 2

## 7447709820
designator L?, comment 82 uH, 2.75 A
WE-PD SMT Shielded Power Inductor, size 1210, 82 uH, 2.75 A; Part Number: 7447709820; Rated Current: 2.75 A; Inductance: 82 uH; DC Resistance max.: 0.105 Ohm; Self Resonant Frequency: 4.5 MHz; ComponentLink1Description: Manufacturer; ComponentLink1URL: http://www.we-online.de; ComponentLink2Description: Datasheet; ComponentLink2URL: https://katalog.we-online.de/pbs/datasheet/7447709820.pdf; Published Date: September 2018; Publisher: Wurth Elektronik; Size: 1210; Operating Temperature: -40 to 125 degC; Mounting Technology: SMT; Packaging: Tape and Reel
footprint WE-PD_1210_Metal base
pins: 1, 2

## 7447709821
designator L?, comment 820 uH, 0.95 A
WE-PD SMT Shielded Power Inductor, size 1210, 820 uH, 0.95 A; Part Number: 7447709821; Rated Current: 0.95 A; Inductance: 820 uH; DC Resistance max.: 1 Ohm; Self Resonant Frequency: 1.2 MHz; ComponentLink1Description: Manufacturer; ComponentLink1URL: http://www.we-online.de; ComponentLink2Description: Datasheet; ComponentLink2URL: https://katalog.we-online.de/pbs/datasheet/7447709821.pdf; Published Date: September 2018; Publisher: Wurth Elektronik; Size: 1210; Operating Temperature: -40 to 125 degC; Mounting Technology: SMT; Packaging: Tape and Reel
footprint WE-PD_1210_Metal base
pins: 1, 2


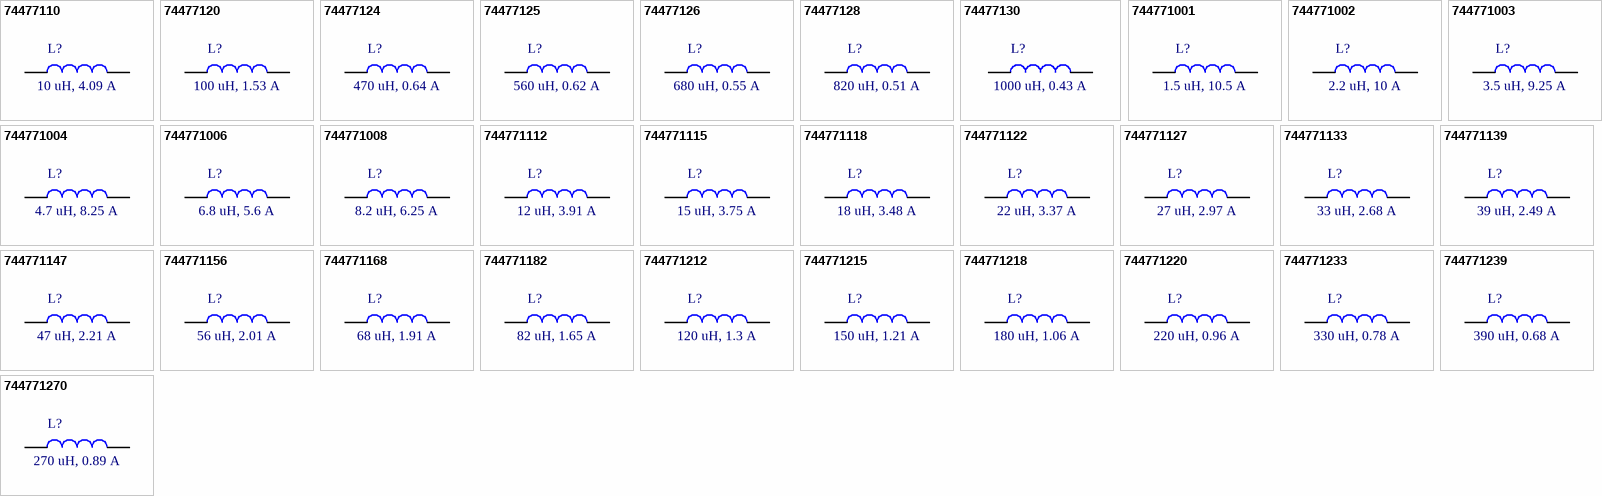
[diagram p3: symbols 74477110 to 744771270]

## 74477110
designator L?, comment 10 uH, 4.09 A
WE-PD SMT Shielded Power Inductor, size 1260, 10 uH, 4.09 A; Part Number: 74477110; Rated Current: 4.09 A; Inductance: 10 uH; DC Resistance max.: 0.025 Ohm; Self Resonant Frequency: 21.5 MHz; ComponentLink1Description: Manufacturer; ComponentLink1URL: http://www.we-online.de; ComponentLink2Description: Datasheet; ComponentLink2URL: https://katalog.we-online.de/pbs/datasheet/74477110.pdf; Published Date: September 2018; Publisher: Wurth Elektronik; Size: 1260; Operating Temperature: -40 to 125 degC; Mounting Technology: SMT; Packaging: Tape and Reel
footprint WE-PD_1260_Metal base
pins: 1, 2

## 74477120
designator L?, comment 100 uH, 1.53 A
WE-PD SMT Shielded Power Inductor, size 1260, 100 uH, 1.53 A; Part Number: 74477120; Rated Current: 1.53 A; Inductance: 100 uH; DC Resistance max.: 0.16 Ohm; Self Resonant Frequency: 6.6 MHz; ComponentLink1Description: Manufacturer; ComponentLink1URL: http://www.we-online.de; ComponentLink2Description: Datasheet; ComponentLink2URL: https://katalog.we-online.de/pbs/datasheet/74477120.pdf; Published Date: September 2018; Publisher: Wurth Elektronik; Size: 1260; Operating Temperature: -40 to 125 degC; Mounting Technology: SMT; Packaging: Tape and Reel
footprint WE-PD_1260_Metal base
pins: 1, 2

## 74477124
designator L?, comment 470 uH, 0.64 A
WE-PD SMT Shielded Power Inductor, size 1260, 470 uH, 0.64 A; Part Number: 74477124; Rated Current: 0.64 A; Inductance: 470 uH; DC Resistance max.: 0.77 Ohm; Self Resonant Frequency: 2.6 MHz; ComponentLink1Description: Manufacturer; ComponentLink1URL: http://www.we-online.de; ComponentLink2Description: Datasheet; ComponentLink2URL: https://katalog.we-online.de/pbs/datasheet/74477124.pdf; Published Date: September 2018; Publisher: Wurth Elektronik; Size: 1260; Operating Temperature: -40 to 125 degC; Mounting Technology: SMT; Packaging: Tape and Reel
footprint WE-PD_1260_Metal base
pins: 1, 2

## 74477125
designator L?, comment 560 uH, 0.62 A
WE-PD SMT Shielded Power Inductor, size 1260, 560 uH, 0.62 A; Part Number: 74477125; Rated Current: 0.62 A; Inductance: 560 uH; DC Resistance max.: 0.86 Ohm; Self Resonant Frequency: 2.5 MHz; ComponentLink1Description: Manufacturer; ComponentLink1URL: http://www.we-online.de; ComponentLink2Description: Datasheet; ComponentLink2URL: https://katalog.we-online.de/pbs/datasheet/74477125.pdf; Published Date: September 2018; Publisher: Wurth Elektronik; Size: 1260; Operating Temperature: -40 to 125 degC; Mounting Technology: SMT; Packaging: Tape and Reel
footprint WE-PD_1260_Metal base
pins: 1, 2

## 74477126
designator L?, comment 680 uH, 0.55 A
WE-PD SMT Shielded Power Inductor, size 1260, 680 uH, 0.55 A; Part Number: 74477126; Rated Current: 0.55 A; Inductance: 680 uH; DC Resistance max.: 1.2 Ohm; Self Resonant Frequency: 2.3 MHz; ComponentLink1Description: Manufacturer; ComponentLink1URL: http://www.we-online.de; ComponentLink2Description: Datasheet; ComponentLink2URL: https://katalog.we-online.de/pbs/datasheet/74477126.pdf; Published Date: September 2018; Publisher: Wurth Elektronik; Size: 1260; Operating Temperature: -40 to 125 degC; Mounting Technology: SMT; Packaging: Tape and Reel
footprint WE-PD_1260_Metal base
pins: 1, 2

## 74477128
designator L?, comment 820 uH, 0.51 A
WE-PD SMT Shielded Power Inductor, size 1260, 820 uH, 0.51 A; Part Number: 74477128; Rated Current: 0.51 A; Inductance: 820 uH; DC Resistance max.: 1.34 Ohm; Self Resonant Frequency: 2.1 MHz; ComponentLink1Description: Manufacturer; ComponentLink1URL: http://www.we-online.de; ComponentLink2Description: Datasheet; ComponentLink2URL: https://katalog.we-online.de/pbs/datasheet/74477128.pdf; Published Date: September 2018; Publisher: Wurth Elektronik; Size: 1260; Operating Temperature: -40 to 125 degC; Mounting Technology: SMT; Packaging: Tape and Reel
footprint WE-PD_1260_Metal base
pins: 1, 2

## 74477130
designator L?, comment 1000 uH, 0.43 A
WE-PD SMT Shielded Power Inductor, size 1260, 1000 uH, 0.43 A; Part Number: 74477130; Rated Current: 0.43 A; Inductance: 1000 uH; DC Resistance max.: 1.53 Ohm; Self Resonant Frequency: 1.9 MHz; ComponentLink1Description: Manufacturer; ComponentLink1URL: http://www.we-online.de; ComponentLink2Description: Datasheet; ComponentLink2URL: https://katalog.we-online.de/pbs/datasheet/74477130.pdf; Published Date: September 2018; Publisher: Wurth Elektronik; Size: 1260; Operating Temperature: -40 to 125 degC; Mounting Technology: SMT; Packaging: Tape and Reel
footprint WE-PD_1260_Metal base
pins: 1, 2

## 744771001
designator L?, comment 1.5 uH, 10.5 A
WE-PD SMT Shielded Power Inductor, size 1260, 1.5 uH, 10.5 A; Part Number: 744771001; Rated Current: 10.5 A; Inductance: 1.5 uH; DC Resistance max.: 0.006 Ohm; Self Resonant Frequency: 60 MHz; ComponentLink1Description: Manufacturer; ComponentLink1URL: http://www.we-online.de; ComponentLink2Description: Datasheet; ComponentLink2URL: https://katalog.we-online.de/pbs/datasheet/744771001.pdf; Published Date: September 2018; Publisher: Wurth Elektronik; Size: 1260; Operating Temperature: -40 to 125 degC; Mounting Technology: SMT; Packaging: Tape and Reel
footprint WE-PD_1260_Metal base
pins: 1, 2

## 744771002
designator L?, comment 2.2 uH, 10 A
WE-PD SMT Shielded Power Inductor, size 1260, 2.2 uH, 10 A; Part Number: 744771002; Rated Current: 10 A; Inductance: 2.2 uH; DC Resistance max.: 0.008 Ohm; Self Resonant Frequency: 50 MHz; ComponentLink1Description: Manufacturer; ComponentLink1URL: http://www.we-online.de; ComponentLink2Description: Datasheet; ComponentLink2URL: https://katalog.we-online.de/pbs/datasheet/744771002.pdf; Published Date: September 2018; Publisher: Wurth Elektronik; Size: 1260; Operating Temperature: -40 to 125 degC; Mounting Technology: SMT; Packaging: Tape and Reel
footprint WE-PD_1260_Metal base
pins: 1, 2

## 744771003
designator L?, comment 3.5 uH, 9.25 A
WE-PD SMT Shielded Power Inductor, size 1260, 3.5 uH, 9.25 A; Part Number: 744771003; Rated Current: 9.25 A; Inductance: 3.5 uH; DC Resistance max.: 0.008 Ohm; Self Resonant Frequency: 40 MHz; ComponentLink1Description: Manufacturer; ComponentLink1URL: http://www.we-online.de; ComponentLink2Description: Datasheet; ComponentLink2URL: https://katalog.we-online.de/pbs/datasheet/744771003.pdf; Published Date: September 2018; Publisher: Wurth Elektronik; Size: 1260; Operating Temperature: -40 to 125 degC; Mounting Technology: SMT; Packaging: Tape and Reel
footprint WE-PD_1260_Metal base
pins: 1, 2

## 744771004
designator L?, comment 4.7 uH, 8.25 A
WE-PD SMT Shielded Power Inductor, size 1260, 4.7 uH, 8.25 A; Part Number: 744771004; Rated Current: 8.25 A; Inductance: 4.7 uH; DC Resistance max.: 0.011 Ohm; Self Resonant Frequency: 35 MHz; ComponentLink1Description: Manufacturer; ComponentLink1URL: http://www.we-online.de; ComponentLink2Description: Datasheet; ComponentLink2URL: https://katalog.we-online.de/pbs/datasheet/744771004.pdf; Published Date: September 2018; Publisher: Wurth Elektronik; Size: 1260; Operating Temperature: -40 to 125 degC; Mounting Technology: SMT; Packaging: Tape and Reel
footprint WE-PD_1260_Metal base
pins: 1, 2

## 744771006
designator L?, comment 6.8 uH, 5.6 A
WE-PD SMT Shielded Power Inductor, size 1260, 6.8 uH, 5.6 A; Part Number: 744771006; Rated Current: 5.6 A; Inductance: 6.8 uH; DC Resistance max.: 0.022 Ohm; Self Resonant Frequency: 27 MHz; ComponentLink1Description: Manufacturer; ComponentLink1URL: http://www.we-online.de; ComponentLink2Description: Datasheet; ComponentLink2URL: https://katalog.we-online.de/pbs/datasheet/744771006.pdf; Published Date: September 2018; Publisher: Wurth Elektronik; Size: 1260; Operating Temperature: -40 to 125 degC; Mounting Technology: SMT; Packaging: Tape and Reel
footprint WE-PD_1260_Metal base
pins: 1, 2

## 744771008
designator L?, comment 8.2 uH, 6.25 A
WE-PD SMT Shielded Power Inductor, size 1260, 8.2 uH, 6.25 A; Part Number: 744771008; Rated Current: 6.25 A; Inductance: 8.2 uH; DC Resistance max.: 0.02 Ohm; Self Resonant Frequency: 25 MHz; ComponentLink1Description: Manufacturer; ComponentLink1URL: http://www.we-online.de; ComponentLink2Description: Datasheet; ComponentLink2URL: https://katalog.we-online.de/pbs/datasheet/744771008.pdf; Published Date: September 2018; Publisher: Wurth Elektronik; Size: 1260; Operating Temperature: -40 to 125 degC; Mounting Technology: SMT; Packaging: Tape and Reel
footprint WE-PD_1260_Metal base
pins: 1, 2

## 744771112
designator L?, comment 12 uH, 3.91 A
WE-PD SMT Shielded Power Inductor, size 1260, 12 uH, 3.91 A; Part Number: 744771112; Rated Current: 3.91 A; Inductance: 12 uH; DC Resistance max.: 0.027 Ohm; Self Resonant Frequency: 19.7 MHz; ComponentLink1Description: Manufacturer; ComponentLink1URL: http://www.we-online.de; ComponentLink2Description: Datasheet; ComponentLink2URL: https://katalog.we-online.de/pbs/datasheet/744771112.pdf; Published Date: September 2018; Publisher: Wurth Elektronik; Size: 1260; Operating Temperature: -40 to 125 degC; Mounting Technology: SMT; Packaging: Tape and Reel
footprint WE-PD_1260_Metal base
pins: 1, 2

## 744771115
designator L?, comment 15 uH, 3.75 A
WE-PD SMT Shielded Power Inductor, size 1260, 15 uH, 3.75 A; Part Number: 744771115; Rated Current: 3.75 A; Inductance: 15 uH; DC Resistance max.: 0.03 Ohm; Self Resonant Frequency: 16.6 MHz; ComponentLink1Description: Manufacturer; ComponentLink1URL: http://www.we-online.de; ComponentLink2Description: Datasheet; ComponentLink2URL: https://katalog.we-online.de/pbs/datasheet/744771115.pdf; Published Date: September 2018; Publisher: Wurth Elektronik; Size: 1260; Operating Temperature: -40 to 125 degC; Mounting Technology: SMT; Packaging: Tape and Reel
footprint WE-PD_1260_Metal base
pins: 1, 2

## 744771118
designator L?, comment 18 uH, 3.48 A
WE-PD SMT Shielded Power Inductor, size 1260, 18 uH, 3.48 A; Part Number: 744771118; Rated Current: 3.48 A; Inductance: 18 uH; DC Resistance max.: 0.034 Ohm; Self Resonant Frequency: 15 MHz; ComponentLink1Description: Manufacturer; ComponentLink1URL: http://www.we-online.de; ComponentLink2Description: Datasheet; ComponentLink2URL: https://katalog.we-online.de/pbs/datasheet/744771118.pdf; Published Date: September 2018; Publisher: Wurth Elektronik; Size: 1260; Operating Temperature: -40 to 125 degC; Mounting Technology: SMT; Packaging: Tape and Reel
footprint WE-PD_1260_Metal base
pins: 1, 2

## 744771122
designator L?, comment 22 uH, 3.37 A
WE-PD SMT Shielded Power Inductor, size 1260, 22 uH, 3.37 A; Part Number: 744771122; Rated Current: 3.37 A; Inductance: 22 uH; DC Resistance max.: 0.036 Ohm; Self Resonant Frequency: 13.5 MHz; ComponentLink1Description: Manufacturer; ComponentLink1URL: http://www.we-online.de; ComponentLink2Description: Datasheet; ComponentLink2URL: https://katalog.we-online.de/pbs/datasheet/744771122.pdf; Published Date: September 2018; Publisher: Wurth Elektronik; Size: 1260; Operating Temperature: -40 to 125 degC; Mounting Technology: SMT; Packaging: Tape and Reel
footprint WE-PD_1260_Metal base
pins: 1, 2

## 744771127
designator L?, comment 27 uH, 2.97 A
WE-PD SMT Shielded Power Inductor, size 1260, 27 uH, 2.97 A; Part Number: 744771127; Rated Current: 2.97 A; Inductance: 27 uH; DC Resistance max.: 0.051 Ohm; Self Resonant Frequency: 12 MHz; ComponentLink1Description: Manufacturer; ComponentLink1URL: http://www.we-online.de; ComponentLink2Description: Datasheet; ComponentLink2URL: https://katalog.we-online.de/pbs/datasheet/744771127.pdf; Published Date: September 2018; Publisher: Wurth Elektronik; Size: 1260; Operating Temperature: -40 to 125 degC; Mounting Technology: SMT; Packaging: Tape and Reel
footprint WE-PD_1260_Metal base
pins: 1, 2